# Altium schematic symbol library diode_1.Schlib: 1 symbol
Pins are listed as number, name and electrical type; pins without a type are passive.

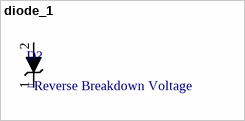
[diagram p0: symbol diode_1]

## diode_1
designator D?
Zener Diode
pins: 1, 2